# Altium footprint library 1806.PcbLib: 1 footprints
Each footprint in its own frame and in the unit in brackets; x right, y up, seen from the top. Pads: shape width x height; smd on the part's side, far side on the other; paste and mask are expansions set on the pad; w line width, h text height; cw(c..) or ccw(c..) is an arc to the next point about the centre after c.
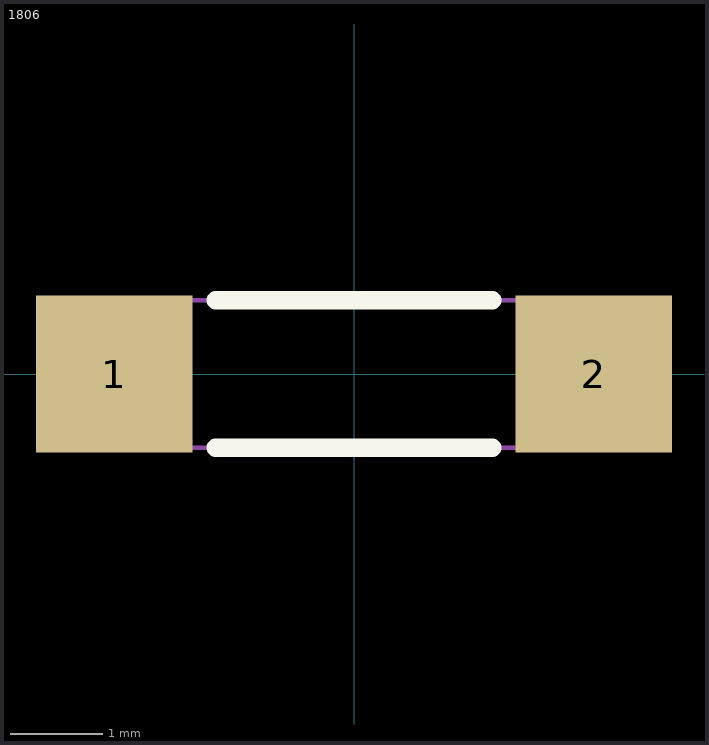
[diagram p0: the footprint, top view; thin cyan lines are the x and y axes]

## 1806 [mm]
height 1.6
pads (2):
  rect 1.7x1.7 smd: 1(-2.6,0) 2(2.6,0)
Top Overlay:
  lines w0.2: -1.5,-0.8 1.5,-0.8 ; -1.5,0.8 1.5,0.8
Mechanical 13:
  lines w0.05: -2.8,-0.8 2.8,-0.8 2.8,0.8 -2.8,0.8 -2.8,-0.8
3D body: height 1.6, standoff 0, extent -2.825,-0.825 2.825,0.825